# Altium footprint library JTK3024S05.PcbLib: 1 footprints
Each footprint in its own frame and in the unit in brackets; x right, y up, seen from the top. Pads: shape width x height; smd on the part's side, far side on the other; paste and mask are expansions set on the pad; w line width, h text height; cw(c..) or ccw(c..) is an arc to the next point about the centre after c.
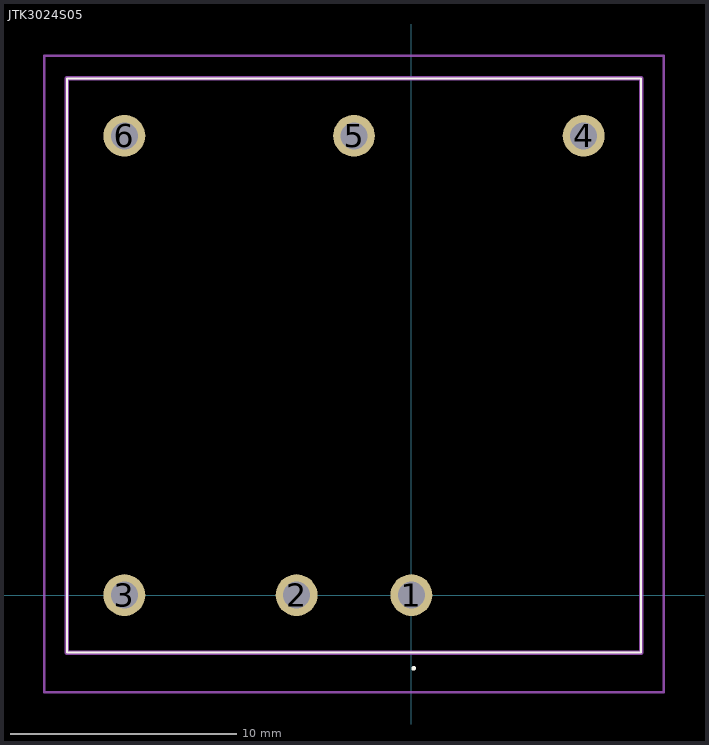
[diagram p0: the footprint, top view; thin cyan lines are the x and y axes]

## JTK3024S05 [mm]
pads (6):
  round 1.85 hole 1.2: 1(0,0) 2(-5.08,0) 3(-12.7,0) 4(7.62,20.32) 5(-2.54,20.32) 6(-12.7,20.32)
Top Overlay:
  lines w0.1: -15.24,-2.54 10.16,-2.54 10.16,22.86 -15.24,22.86 -15.24,-2.54
  lines w0.102: 0.049,-3.244 0.049,-3.244 ; 0.049,-3.244 ccw(c0.1,-3.244) 0.151,-3.244 ; 0.049,-3.244 cw(c0.1,-3.244) 0.151,-3.244 ; 0.151,-3.244 0.151,-3.244
Mechanical 15:
  lines w0.2: -15.24,-2.54 10.16,-2.54 10.16,22.86 -15.24,22.86 -15.24,-2.54
Mechanical 20:
  lines w0.1: -16.24,-4.295 11.16,-4.295 11.16,23.86 -16.24,23.86 -16.24,-4.295